# Altium integrated library SDP810-500PA.IntLib: 1 symbol
Pins are listed as number, name and electrical type; pins without a type are passive.

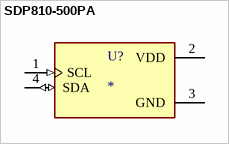
[diagram p0: symbol SDP810-500PA]

## SDP810-500PA
designator U?
Pressure Sensor -0.07PSI ~ 0.07PSI (-0.5kPa ~ 0.5kPa) Differential Male - 0.2 (5.2mm) Tube, Dual 16 b Module; MF: Sensirion AG; MP: SDP810-500PA; SnapEDA_Link: https://www.snapeda.com/parts/SDP810-500PA/Sensirion/view-part/?ref=snap; Package: Module Sensirion AG; Value: *; Check_prices: https://www.snapeda.com/parts/SDP810-500PA/Sensirion/view-part/?ref=eda
footprint XDCR_SDP810-500PA
pins: 1 SCL (in), 2 VDD (power), 3 GND (power), 4 SDA (io)